# Altium footprint library Amphenol_USB-miniB_SMT.PcbLib: 1 footprints
Each footprint in its own frame and in the unit in brackets; x right, y up, seen from the top. Pads: shape width x height; smd on the part's side, far side on the other; paste and mask are expansions set on the pad; w line width, h text height; cw(c..) or ccw(c..) is an arc to the next point about the centre after c.
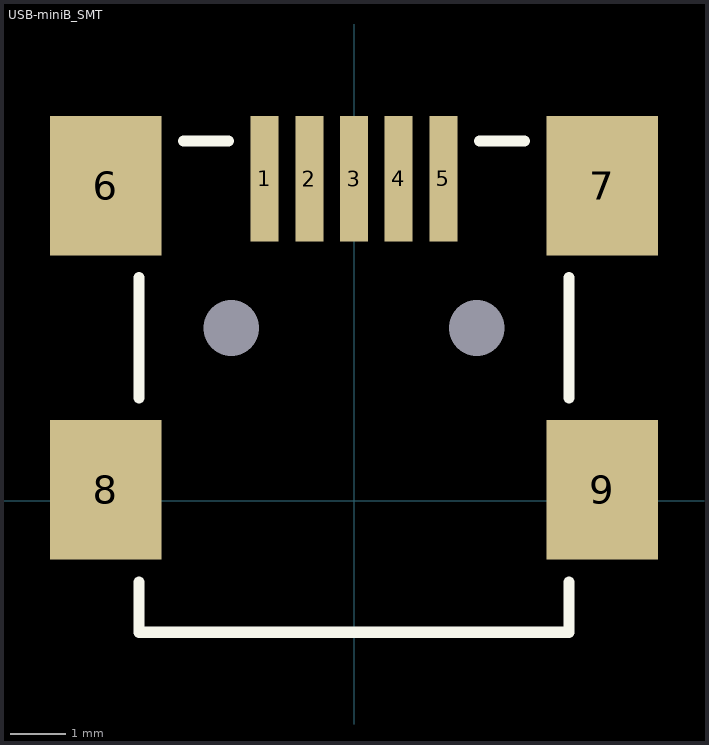
[diagram p0: the footprint, top view; thin cyan lines are the x and y axes]

## USB-miniB_SMT [mm] "USB - mini B Receptacle Connector 5 Position Surface Mount, Right Angle, Horizontal"
height 4
pads (11):
  rect 0.5x2.25 smd: 1(-1.6,5.775) 2(-0.8,5.775) 3(0,5.775) 4(0.8,5.775) 5(1.6,5.775)
  rect 2x2.5 smd: 6(-4.45,5.65) 7(4.45,5.65) 8(-4.45,0.2) 9(4.45,0.2)
  rect 0x0 hole 1 unplated: ""(-2.2,3.1) ""(2.2,3.1)
Top Overlay:
  lines w0.2: -3.85,-1.45 -3.85,-2.35 3.85,-2.35 3.85,-1.45 ; -3.85,1.85 -3.85,4 ; -3.05,6.45 -2.25,6.45 ; 2.25,6.45 3.05,6.45 ; 3.85,1.85 3.85,4
3D body "USB_Mini_B_SMD_buchse.STEP": height 3.95, standoff -0.01, extent -5,-2.45 5,6.45